# EAGLE library part TPS2042 (library m-pad-2.1)
Ti's TPS2042 CURRENT-LIMITED, POWER-DISTRIBUTION SWITCHES Description: The TPS204xB/TPS205xB power-distribution switches are intended for applications where heavy capacitive loads and short circuits are likely to be encountered. These devices incorporates 70-mW N-channel MOSFET power switches for power-distribution systems that require multiple power switches in a single package. Each switch is controlled by a logic enable input. Gate drive is provided by an internal charge pump designed to control the power-switch rise times and fall times to minimize current surges during switching. The charge pump requires no external components and allows operation from supplies as low as 2.7 V. When the output load exceeds the current-limit threshold or a short is present, the device limits the output current to a safe level by switching into a constant-current mode, pulling the overcurrent (OCx) logic output low. When continuous heavy overloads and short-circuits increase the power dissipation in the switch, causing the junction temperature to rise, a thermal protection circuit shuts off the switch to prevent damage. Recovery from a thermal shutdown is automatic once the device has cooled sufficiently. Internal circuitry ensures that the switch remains off until valid input voltage is present. This power-distribution switch is designed to set current limit at 1 A typically. Features: 70-mW High-Side MOSFET 500-mA Continuous Current Thermal and Short-Circuit Protection Accurate Current Limit (0.7 A min, 1.3 A max) Operating Range: 2.7 V to 5.5 V 0.6-ms Typical Rise Time Undervoltage Lockout Deglitched Fault Report (OC) No OC Glitch During Power Up Maximum Standby Supply Current: 1-uA (Single, Dual) or 2-uA (Triple, Quad) Bidirectional Switch Ambient Temperature Range: -40°C to 85° ESD Protection UL Recognized, File Number E169910 Applications: Heavy Capacitive Loads Short-Circuit Protections Please send any comments to: messi@users.sourceforge.net
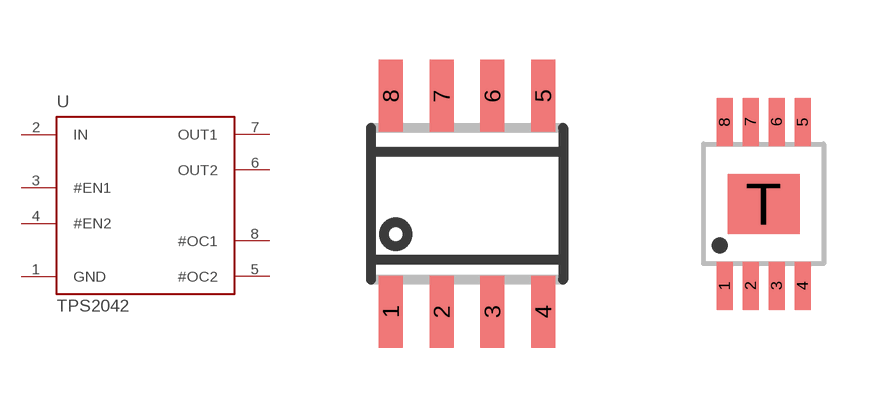
[diagram p135: symbol with the pads of SOIC8; footprints SOIC8, MSOP-8]

Designator prefix U

## TPS2042-D  [SOIC8]
1  GND  pwr
2  IN  pwr
3  #EN1  in
4  #EN2  in
5  #OC2  out
6  OUT2  out
7  OUT1  out
8  #OC1  out

## TPS2042-DGN  [MSOP-8]
Pads as for SOIC8

## Footprint SOIC8 (pad centres in mm)
Small Outline IC
smd 0.6 x 1.8: 1 -1.905,-2.7; 2 -0.635,-2.7; 3 0.635,-2.7; 4 1.905,-2.7; 5 1.905,2.7; 6 0.635,2.7; 7 -0.635,2.7; 8 -1.905,2.7

## Footprint MSOP-8 (pad centres in mm)
smd 0.4 x 1.2: 1 -0.975,-2.05; 2 -0.325,-2.05; 3 0.325,-2.05; 4 0.975,-2.05; 5 0.975,2.05; 6 0.325,2.05; 7 -0.325,2.05; 8 -0.975,2.05
smd 1.8 x 1.5: T 0,0